# Altium integrated library J-N3-C0D1-Fx.IntLib: 1 symbol
Pins are listed as number, name and electrical type; pins without a type are passive.

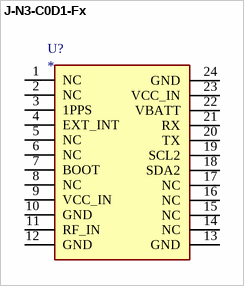
[diagram p0: symbol J-N3-C0D1-Fx]

## J-N3-C0D1-Fx
designator U?
datasheet: http://static6.arrow.com/aropdfconversion/b708ff3ef285ea72997df569c0db27749a86698f/5telit_jupiter_jn3_product_description_r4.pdf
footprint PCBComponent_1
pins: 1 NC, 2 NC, 3 1PPS, 4 EXT_INT, 5 NC, 6 NC, 7 BOOT, 8 NC, 9 VCC_IN, 10 GND, 11 RF_IN, 12 GND, 13 GND, 14 NC, 15 NC, 16 NC, 17 NC, 18 SDA2, 19 SCL2, 20 TX, 21 RX, 22 VBATT, 23 VCC_IN, 24 GND